# EAGLE library part RTC_DS3231 (library lib_swirly)
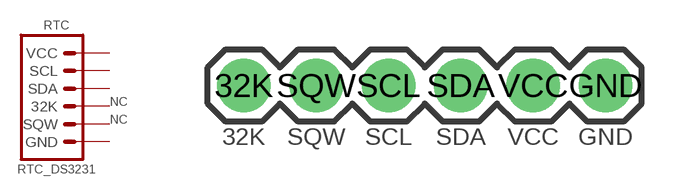
[diagram p4: symbol with the pads of CONNECTOR_RTC-DS3231; footprint CONNECTOR_RTC-DS3231]

Designator prefix RTC

## RTC_DS3231 (CREATOR: MrSwirlyEyes; DATASHEET: N/A; DATASHEET_BATT: https://media.digikey.com/pdf/Data%20Sheets/Panasonic%20Inustrial/CR_Series.pdf; DATASHEET_CONNECTOR: http://sullinscorp.com/catalogs/101_PAGE114-115_.100_FEMALE_HDR.pdf; DIST: Amazon; DISTLINK: https://www.amazon.com/Donop-DS3231-AT24C32-precision-Arduino/dp/B00HCB7VYS; DISTLINK_BATT: https://www.digikey.com/products/en/battery-products/batteries-non-rechargeable-primary/90?k=P189-ND; DISTLINK_CONNECTOR: https://www.digikey.com/products/en/connectors-interconnects/rectangular-connectors-headers-receptacles-female-sockets/315?k=S7004-ND; DISTPN: N/A; DISTPN_BATT: P189-ND; DISTPN_CONNECTOR: S7004-ND; DIST_BATT: Digikey; DIST_CONNECTOR: Digikey; MFR: N/A; MFR_BATT: Panasonic - BSG; MFR_CONNECTOR: Sullins Connector Solutions; MPN: N/A; MPN_BATT: CR2032; MPN_CONNECTOR: PPTC061LFBN-RC; TESTED: NO; VALUE: DS3231)  [CONNECTOR_RTC-DS3231]
32K  32K  nc
GND  GND  pwr
SCL  SCL  sup
SDA  SDA  sup
SQW  SQW  nc
VCC  VCC  pwr

## Footprint CONNECTOR_RTC-DS3231 (pad centres in mm)
drill 1.016 pad 1.88: 32K -6.35,0; GND 6.35,0; SCL -1.27,0; SDA 1.27,0; SQW -3.81,0; VCC 3.81,0